# EAGLE library part MN3004 (library ic-bbd)
512-Stage Lo Noise BBD
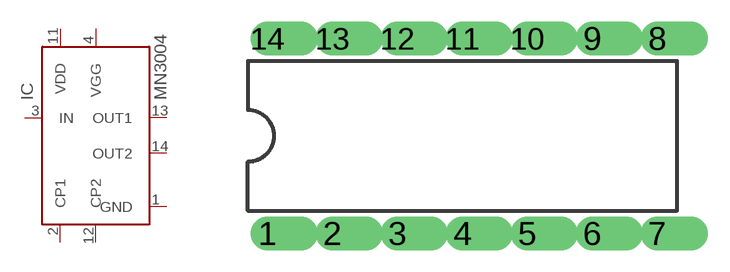
[diagram p2: symbol with the pads of DIL-14; footprint DIL-14]

Designator prefix IC

## MN3004  [DIL-14]
1  GND
2  CP1
3  IN
4  VGG
11  VDD
12  CP2
13  OUT1
14  OUT2

## Footprint DIL-14 (pad centres in mm)
Dual In Line Package
drill 0.813 offset: 1 -7.62,-3.81; 2 -5.08,-3.81; 3 -2.54,-3.81; 4 0,-3.81; 5 2.54,-3.81; 6 5.08,-3.81; 7 7.62,-3.81; 8 7.62,3.81; 9 5.08,3.81; 10 2.54,3.81; 11 0,3.81; 12 -2.54,3.81; 13 -5.08,3.81; 14 -7.62,3.81